# Altium footprint library SM_XTAL_CFM-HCM49-2_V.PcbLib: 1 footprints
Each footprint in its own frame and in the unit in brackets; x right, y up, seen from the top. Pads: shape width x height; smd on the part's side, far side on the other; paste and mask are expansions set on the pad; w line width, h text height; cw(c..) or ccw(c..) is an arc to the next point about the centre after c.
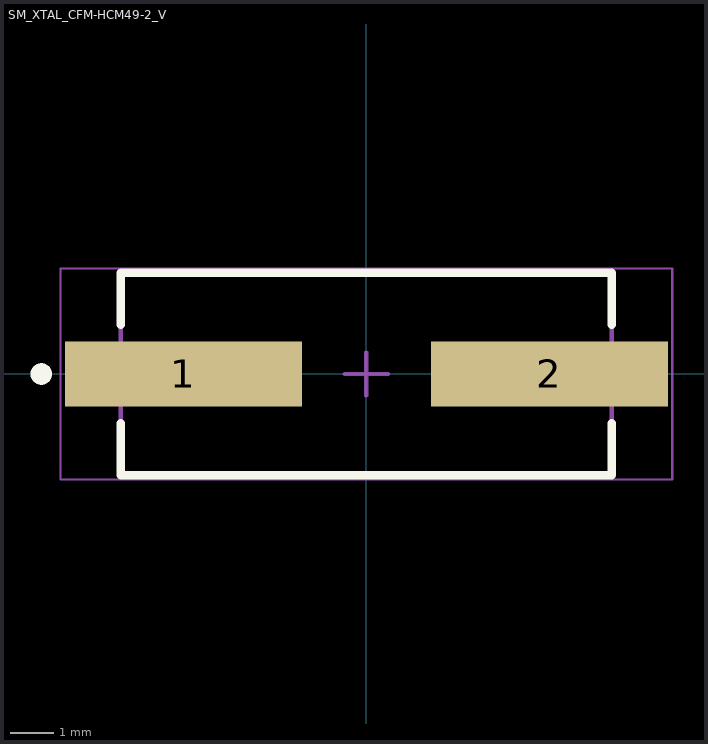
[diagram p0: the footprint, top view; thin cyan lines are the x and y axes]

## SM_XTAL_CFM-HCM49-2_V [mm] "SMD, 2-Leads, Body 11.4x4.7mm, Pitch 8.5mm"
height 4.3
pads (2):
  rect 5.5x1.5 smd: 1(-4.25,0) 2(4.25,0)
Top Overlay:
  circle w0.25: c-7.55,0 r0.125
  lines w0.2: -5.7,-1.15 -5.7,-2.35 5.7,-2.35 5.7,-1.15 ; -5.7,1.15 -5.7,2.35 5.7,2.35 5.7,1.15
Mechanical 13:
  lines w0.1: -5.7,-2.35 -5.7,2.35 5.7,2.35 5.7,-2.35 -5.7,-2.35
Mechanical 15:
  lines w0.05: -7.1,-2.45 7.1,-2.45 7.1,2.45 -7.1,2.45 -7.1,-2.45
  lines w0.1: -0.5,0 0.5,0 ; 0,-0.5 0,0.5
3D body: height 1.3, standoff 0.64, extent -5.446,-2.101 5.446,2.101
3D body: height 4.3, standoff 1.3, extent -5.251,-1.906 5.251,1.906
3D body: height 0.64, standoff 0, extent -5.7,-2.35 5.7,2.35